# Altium footprint library jumper.PCBLIB: 66 footprints (part 3 of 5)
Each footprint in its own frame and in the unit in brackets; x right, y up, seen from the top. Pads: shape width x height; smd on the part's side, far side on the other; paste and mask are expansions set on the pad; w line width, h text height; cw(c..) or ccw(c..) is an arc to the next point about the centre after c.
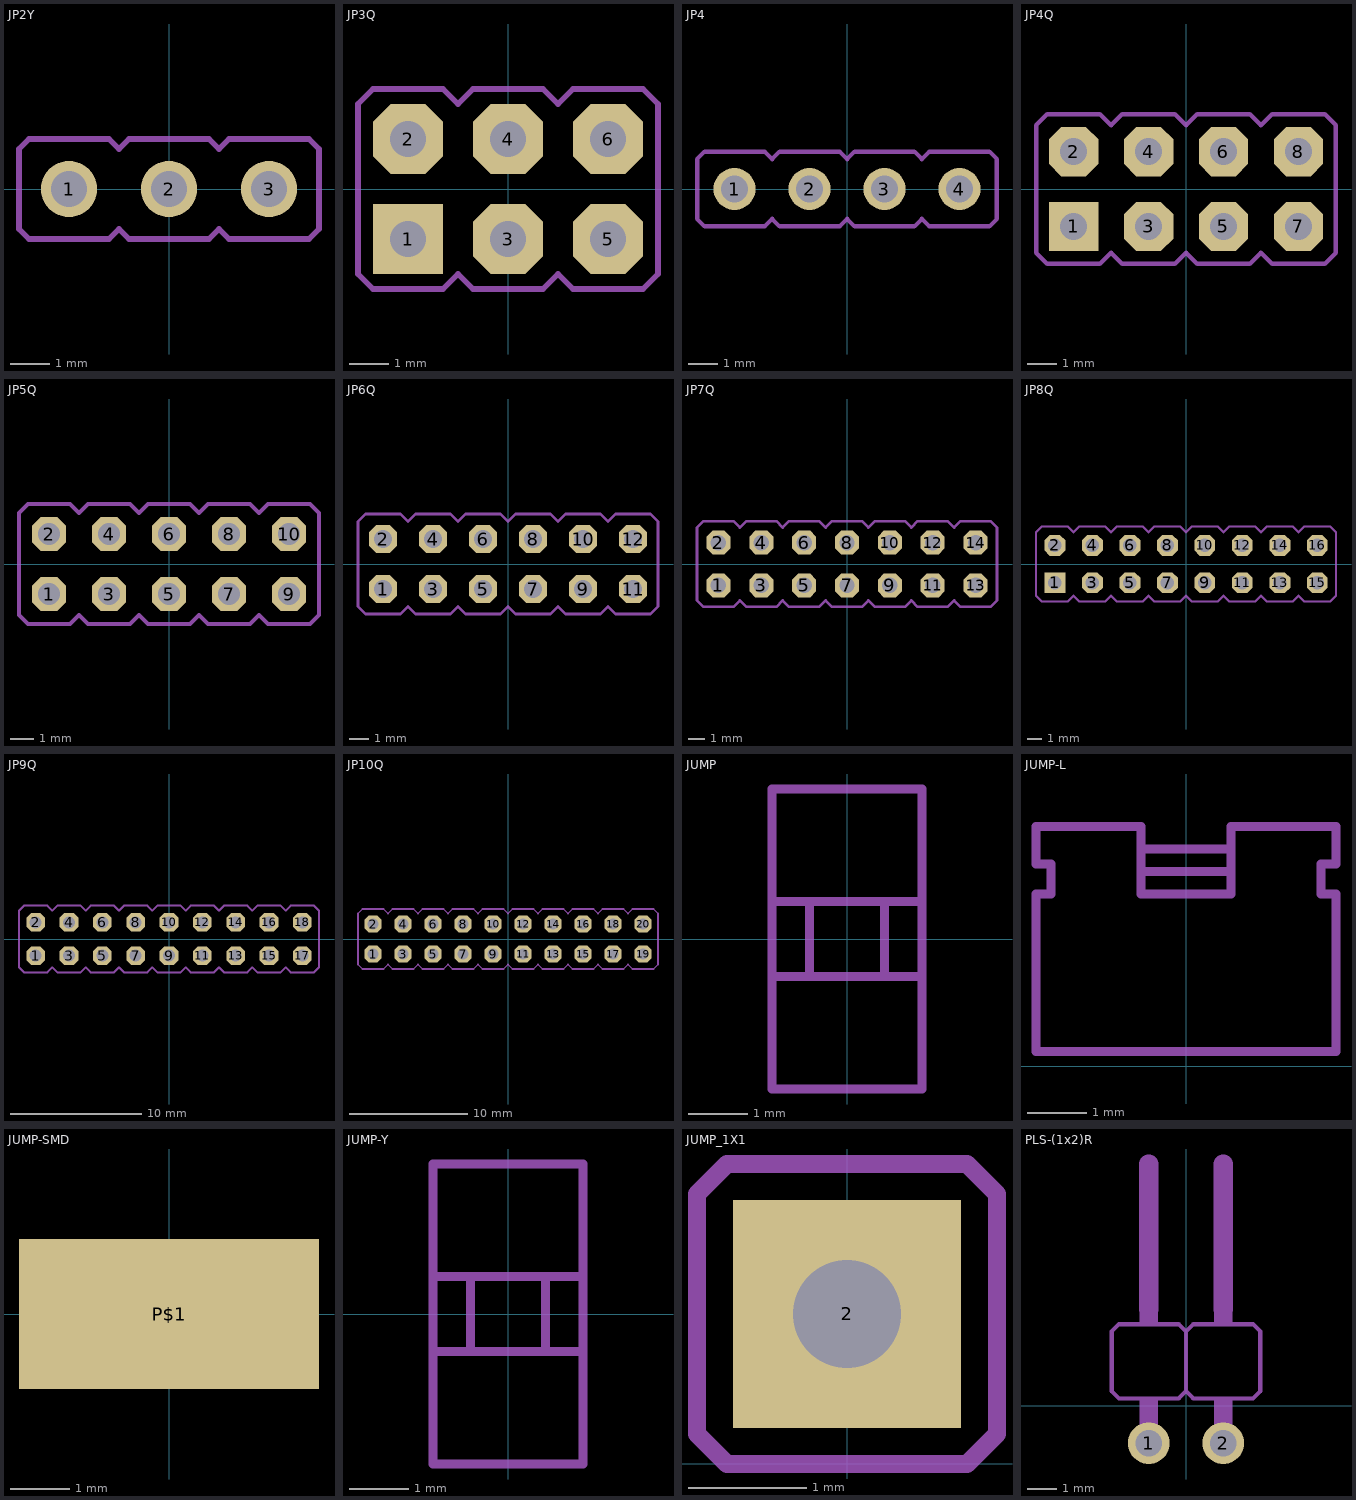
[diagram p2: the footprints below, top view; thin cyan lines are the x and y axes]

## JP2Y [mil]
pads (3):
  round 56 hole 36: 1(-100,0) 2(0,0) 3(100,0)
Mechanical 3:
  region: 88,-12 88,12 112,12 112,-12
  region: -12,-12 -12,12 12,12 12,-12
  region: -112,-12 -112,12 -88,12 -88,-12
  lines w6: -130,-50 -70,-50 ; -130,50 -70,50 ; -30,-50 30,-50 ; -30,50 30,50 ; 70,-50 130,-50 ; 70,50 130,50
Mechanical 7:
  lines w6: -130,-50 -140,-50 -150,-40 -150,40 -140,50 -130,50 ; -70,-50 -60,-50 -50,-40 -40,-50 -30,-50 ; -70,50 -60,50 -50,40 -40,50 -30,50 ; 30,-50 40,-50 50,-40 60,-50 70,-50 ; 30,50 40,50 50,40 60,50 70,50 ; 130,-50 140,-50 150,-40 150,40 140,50 130,50

## JP3Q [mil]
pads (6):
  rect 70x70 / inner round 64.67 / far side rect 70x70 hole 36: 1(-100,-50)
  oct 70x70 / inner round 64.67 / far side oct 70x70 hole 36: 2(-100,50) 3(0,-50) 4(0,50) 5(100,-50) 6(100,50)
Mechanical 3:
  region: -112,38 -112,62 -88,62 -88,38
  region: -12,38 -12,62 12,62 12,38
  region: 88,38 88,62 112,62 112,38
  region: -112,-62 -112,-38 -88,-38 -88,-62
  region: -12,-62 -12,-38 12,-38 12,-62
  region: 88,-62 88,-38 112,-38 112,-62
Mechanical 7:
  lines w6: -150,-85 -150,85 -135,100 -65,100 -50,85 -35,100 35,100 50,85 65,100 135,100 150,85 150,-85 135,-100 65,-100 50,-85 35,-100 -35,-100 -50,-85 -65,-100 -135,-100 -150,-85

## JP4 [mil]
pads (4):
  round 56 hole 36: 1(-150,0) 2(-50,0) 3(50,0) 4(150,0)
Mechanical 3:
  region: -162,-12 -162,12 -138,12 -138,-12
  region: -62,-12 -62,12 -38,12 -38,-12
  region: 38,-12 38,12 62,12 62,-12
  region: 138,-12 138,12 162,12 162,-12
Mechanical 7:
  lines w6: -200,-40 -200,40 -190,50 -110,50 -100,40 -90,50 -10,50 0,40 10,50 90,50 100,40 110,50 190,50 200,40 200,-40 190,-50 110,-50 100,-40 90,-50 10,-50 0,-40 -10,-50 -90,-50 -100,-40 -110,-50 -190,-50 -200,-40

## JP4Q [mil]
pads (8):
  rect 66x66 / inner round 60.98 / far side rect 66x66 hole 36: 1(-150,-50)
  oct 66x66 / inner round 60.98 / far side oct 66x66 hole 36: 2(-150,50) 3(-50,-50) 4(-50,50) 5(50,-50) 6(50,50) 7(150,-50) 8(150,50)
Mechanical 3:
  region: -162,38 -162,62 -138,62 -138,38
  region: -62,38 -62,62 -38,62 -38,38
  region: 38,38 38,62 62,62 62,38
  region: 138,-62 138,-38 162,-38 162,-62
  region: -162,-62 -162,-38 -138,-38 -138,-62
  region: -62,-62 -62,-38 -38,-38 -38,-62
  region: 138,38 138,62 162,62 162,38
  region: 38,-62 38,-38 62,-38 62,-62
Mechanical 7:
  lines w6: -200,-85 -200,85 -185,100 -115,100 -100,85 -85,100 -15,100 0,85 15,100 85,100 100,85 115,100 185,100 200,85 200,-85 185,-100 115,-100 100,-85 85,-100 15,-100 0,-85 -15,-100 -85,-100 -100,-85 -115,-100 -185,-100 -200,-85

## JP5Q [mil]
pads (10):
  oct 56x56 / inner round 51.74 / far side oct 56x56 hole 36: 1(-200,-50) 2(-200,50) 3(-100,-50) 4(-100,50) 5(0,-50) 6(0,50) 7(100,-50) 8(100,50) 9(200,-50) 10(200,50)
Mechanical 3:
  region: -212,38 -212,62 -188,62 -188,38
  region: -112,38 -112,62 -88,62 -88,38
  region: -12,38 -12,62 12,62 12,38
  region: -212,-62 -212,-38 -188,-38 -188,-62
  region: -112,-62 -112,-38 -88,-38 -88,-62
  region: -12,-62 -12,-38 12,-38 12,-62
  region: 88,38 88,62 112,62 112,38
  region: 188,38 188,62 212,62 212,38
  region: 188,-62 188,-38 212,-38 212,-62
  region: 88,-62 88,-38 112,-38 112,-62
Mechanical 7:
  lines w6: -250,-85 -250,85 -235,100 -165,100 -150,85 -135,100 -65,100 -50,85 -35,100 35,100 50,85 65,100 135,100 150,85 165,100 235,100 250,85 250,-85 235,-100 165,-100 150,-85 135,-100 65,-100 50,-85 35,-100 -35,-100 -50,-85 -65,-100 -135,-100 -150,-85 -165,-100 -235,-100 -250,-85
  text "1" at -220,-165 h77.5
  text "2" at -120,-165 h77.5
  text "3" at -20,-165 h77.5
  text "4" at 80,-165 h77.5
  text "5" at 180,-165 h77.5

## JP6Q [mil]
pads (12):
  oct 56x56 / inner round 51.74 / far side oct 56x56 hole 36: 1(-250,-50) 2(-250,50) 3(-150,-50) 4(-150,50) 5(-50,-50) 6(-50,50) 7(50,-50) 8(50,50) 9(150,-50) 10(150,50) 11(250,-50) 12(250,50)
Mechanical 3:
  region: -262,38 -262,62 -238,62 -238,38
  region: -162,38 -162,62 -138,62 -138,38
  region: -62,38 -62,62 -38,62 -38,38
  region: 38,38 38,62 62,62 62,38
  region: 138,38 138,62 162,62 162,38
  region: 238,38 238,62 262,62 262,38
  region: -262,-62 -262,-38 -238,-38 -238,-62
  region: -162,-62 -162,-38 -138,-38 -138,-62
  region: -62,-62 -62,-38 -38,-38 -38,-62
  region: 38,-62 38,-38 62,-38 62,-62
  region: 138,-62 138,-38 162,-38 162,-62
  region: 238,-62 238,-38 262,-38 262,-62
Mechanical 7:
  lines w6: -300,-85 -300,85 -285,100 -215,100 -200,85 -185,100 -115,100 -100,85 -85,100 -15,100 0,85 15,100 85,100 100,85 115,100 185,100 200,85 215,100 285,100 300,85 300,-85 285,-100 215,-100 200,-85 185,-100 115,-100 100,-85 85,-100 15,-100 0,-85 -15,-100 -85,-100 -100,-85 -115,-100 -185,-100 -200,-85 -215,-100 -285,-100 -300,-85
  text "1" at -270,-165 h77.5
  text "2" at -170,-165 h77.5
  text "3" at -70,-165 h77.5
  text "4" at 30,-165 h77.5
  text "5" at 130,-165 h77.5
  text "6" at 230,-165 h77.5

## JP7Q [mil]
pads (14):
  oct 56x56 / inner round 51.74 / far side oct 56x56 hole 36: 1(-300,-50) 2(-300,50) 3(-200,-50) 4(-200,50) 5(-100,-50) 6(-100,50) 7(0,-50) 8(0,50) 9(100,-50) 10(100,50) 11(200,-50) 12(200,50) 13(300,-50) 14(300,50)
Mechanical 3:
  region: -312,38 -312,62 -288,62 -288,38
  region: -212,38 -212,62 -188,62 -188,38
  region: -112,38 -112,62 -88,62 -88,38
  region: -12,38 -12,62 12,62 12,38
  region: 88,38 88,62 112,62 112,38
  region: 188,38 188,62 212,62 212,38
  region: -312,-62 -312,-38 -288,-38 -288,-62
  region: -212,-62 -212,-38 -188,-38 -188,-62
  region: -112,-62 -112,-38 -88,-38 -88,-62
  region: -12,-62 -12,-38 12,-38 12,-62
  region: 88,-62 88,-38 112,-38 112,-62
  region: 188,-62 188,-38 212,-38 212,-62
  region: 288,38 288,62 312,62 312,38
  region: 288,-62 288,-38 312,-38 312,-62
Mechanical 7:
  lines w6: -350,-85 -350,85 -335,100 -265,100 -250,85 -235,100 -165,100 -150,85 -135,100 -65,100 -50,85 -35,100 35,100 50,85 65,100 135,100 150,85 165,100 235,100 250,85 265,100 335,100 350,85 350,-85 335,-100 265,-100 250,-85 235,-100 165,-100 150,-85 135,-100 65,-100 50,-85 35,-100 -35,-100 -50,-85 -65,-100 -135,-100 -150,-85 -165,-100 -235,-100 -250,-85 -265,-100 -335,-100 -350,-85
  text "1" at -320,-165 h77.5
  text "2" at -220,-165 h77.5
  text "3" at -120,-165 h77.5
  text "4" at -20,-165 h77.5
  text "5" at 80,-165 h77.5
  text "6" at 180,-165 h77.5
  text "7" at 280,-165 h77.5

## JP8Q [mil]
pads (16):
  rect 56x56 / inner round 51.74 / far side rect 56x56 hole 36: 1(-350,-50)
  oct 56x56 / inner round 51.74 / far side oct 56x56 hole 36: 2(-350,50) 3(-250,-50) 4(-250,50) 5(-150,-50) 6(-150,50) 7(-50,-50) 8(-50,50) 9(50,-50) 10(50,50) 11(150,-50) 12(150,50) 13(250,-50) 14(250,50) 15(350,-50) 16(350,50)
Mechanical 3:
  region: -362,38 -362,62 -338,62 -338,38
  region: -262,38 -262,62 -238,62 -238,38
  region: -162,38 -162,62 -138,62 -138,38
  region: -62,38 -62,62 -38,62 -38,38
  region: 38,38 38,62 62,62 62,38
  region: 138,38 138,62 162,62 162,38
  region: 238,38 238,62 262,62 262,38
  region: 338,38 338,62 362,62 362,38
  region: -362,-62 -362,-38 -338,-38 -338,-62
  region: -262,-62 -262,-38 -238,-38 -238,-62
  region: -162,-62 -162,-38 -138,-38 -138,-62
  region: -62,-62 -62,-38 -38,-38 -38,-62
  region: 38,-62 38,-38 62,-38 62,-62
  region: 138,-62 138,-38 162,-38 162,-62
  region: 238,-62 238,-38 262,-38 262,-62
  region: 338,-62 338,-38 362,-38 362,-62
Mechanical 7:
  lines w6: -400,-85 -400,85 -385,100 -315,100 -300,85 -285,100 -215,100 -200,85 -185,100 -115,100 -100,85 -85,100 -15,100 0,85 15,100 85,100 100,85 115,100 185,100 200,85 215,100 285,100 300,85 315,100 385,100 400,85 400,-85 385,-100 315,-100 300,-85 285,-100 215,-100 200,-85 185,-100 115,-100 100,-85 85,-100 15,-100 0,-85 -15,-100 -85,-100 -100,-85 -115,-100 -185,-100 -200,-85 -215,-100 -285,-100 -300,-85 -315,-100 -385,-100 -400,-85

## JP9Q [mil]
pads (18):
  oct 56x56 / inner round 51.74 / far side oct 56x56 hole 36: 1(-400,-50) 2(-400,50) 3(-300,-50) 4(-300,50) 5(-200,-50) 6(-200,50) 7(-100,-50) 8(-100,50) 9(0,-50) 10(0,50) 11(100,-50) 12(100,50) 13(200,-50) 14(200,50) 15(300,-50) 16(300,50) 17(400,-50) 18(400,50)
Mechanical 3:
  region: -412,38 -412,62 -388,62 -388,38
  region: -312,38 -312,62 -288,62 -288,38
  region: -212,38 -212,62 -188,62 -188,38
  region: -112,38 -112,62 -88,62 -88,38
  region: -12,38 -12,62 12,62 12,38
  region: 88,38 88,62 112,62 112,38
  region: 188,38 188,62 212,62 212,38
  region: 288,38 288,62 312,62 312,38
  region: 388,38 388,62 412,62 412,38
  region: -412,-62 -412,-38 -388,-38 -388,-62
  region: -312,-62 -312,-38 -288,-38 -288,-62
  region: -212,-62 -212,-38 -188,-38 -188,-62
  region: -112,-62 -112,-38 -88,-38 -88,-62
  region: -12,-62 -12,-38 12,-38 12,-62
  region: 88,-62 88,-38 112,-38 112,-62
  region: 188,-62 188,-38 212,-38 212,-62
  region: 288,-62 288,-38 312,-38 312,-62
  region: 388,-62 388,-38 412,-38 412,-62
Mechanical 7:
  lines w6: -450,-85 -450,85 -435,100 -365,100 -350,85 -335,100 -265,100 -250,85 -235,100 -165,100 -150,85 -135,100 -65,100 -50,85 -35,100 35,100 50,85 65,100 135,100 150,85 165,100 235,100 250,85 265,100 335,100 350,85 365,100 435,100 450,85 450,-85 435,-100 365,-100 350,-85 335,-100 265,-100 250,-85 235,-100 165,-100 150,-85 135,-100 65,-100 50,-85 35,-100 -35,-100 -50,-85 -65,-100 -135,-100 -150,-85 -165,-100 -235,-100 -250,-85 -265,-100 -335,-100 -350,-85 -365,-100 -435,-100 -450,-85
  text "1" at -420,-165 h77.5
  text "2" at -320,-165 h77.5
  text "3" at -220,-165 h77.5
  text "4" at -120,-165 h77.5
  text "5" at -20,-165 h77.5
  text "6" at 80,-165 h77.5
  text "7" at 180,-165 h77.5
  text "8" at 280,-165 h77.5
  text "9" at 380,-165 h77.5

## JP10Q [mil]
pads (20):
  oct 56x56 / inner round 51.74 / far side oct 56x56 hole 36: 1(-450,-50) 2(-450,50) 3(-350,-50) 4(-350,50) 5(-250,-50) 6(-250,50) 7(-150,-50) 8(-150,50) 9(-50,-50) 10(-50,50) 11(50,-50) 12(50,50) 13(150,-50) 14(150,50) 15(250,-50) 16(250,50) 17(350,-50) 18(350,50) 19(450,-50) 20(450,50)
Mechanical 3:
  region: -462,38 -462,62 -438,62 -438,38
  region: -362,38 -362,62 -338,62 -338,38
  region: -262,38 -262,62 -238,62 -238,38
  region: -162,38 -162,62 -138,62 -138,38
  region: -62,38 -62,62 -38,62 -38,38
  region: 38,38 38,62 62,62 62,38
  region: 138,38 138,62 162,62 162,38
  region: 238,38 238,62 262,62 262,38
  region: 338,38 338,62 362,62 362,38
  region: -462,-62 -462,-38 -438,-38 -438,-62
  region: -362,-62 -362,-38 -338,-38 -338,-62
  region: -262,-62 -262,-38 -238,-38 -238,-62
  region: -162,-62 -162,-38 -138,-38 -138,-62
  region: -62,-62 -62,-38 -38,-38 -38,-62
  region: 38,-62 38,-38 62,-38 62,-62
  region: 138,-62 138,-38 162,-38 162,-62
  region: 238,-62 238,-38 262,-38 262,-62
  region: 338,-62 338,-38 362,-38 362,-62
  region: 438,38 438,62 462,62 462,38
  region: 438,-62 438,-38 462,-38 462,-62
Mechanical 7:
  lines w6: -500,-85 -500,85 -485,100 -415,100 -400,85 -385,100 -315,100 -300,85 -285,100 -215,100 -200,85 -185,100 -115,100 -100,85 -85,100 -15,100 0,85 15,100 85,100 100,85 115,100 185,100 200,85 215,100 285,100 300,85 315,100 385,100 400,85 415,100 485,100 500,85 500,-85 485,-100 415,-100 400,-85 385,-100 315,-100 300,-85 285,-100 215,-100 200,-85 185,-100 115,-100 100,-85 85,-100 15,-100 0,-85 -15,-100 -85,-100 -100,-85 -115,-100 -185,-100 -200,-85 -215,-100 -285,-100 -300,-85 -315,-100 -385,-100 -400,-85 -415,-100 -485,-100 -500,-85

## JUMP [mil]
Mechanical 3:
  lines w6: -25,-25 25,-25 ; -25,25 25,25
Mechanical 7:
  lines w6: -50,-25 -50,-100 50,-100 50,-25 ; -50,-25 -25,-25 -25,25 -50,25 ; -50,-25 -50,25 ; -50,25 -50,100 50,100 50,25 ; 50,-25 25,-25 25,25 50,25 ; 50,-25 50,25

## JUMP-L [mil]
Mechanical 7:
  lines w6: -30,130 30,130 ; -30,130 -30,145 ; -30,130 -30,115 30,115 30,130 ; -30,145 -30,160 -100,160 -100,135 -90,135 -90,115 -100,115 -100,10 100,10 100,115 90,115 90,135 100,135 100,160 30,160 30,145 ; -30,145 30,145 ; 30,130 30,145

## JUMP-SMD [mil]
pads (1):
  rect 200x100 smd: P$1(0,0)

## JUMP-Y [mil]
Mechanical 3:
  lines w6: -50,-80 -50,-25 ; -50,-20 -50,-25 ; -50,20 -50,25 ; -50,80 -50,25 ; -25,-10 -25,-25 ; -25,10 -25,25 ; 25,-10 25,-25 ; 25,10 25,25 ; 50,-80 50,-25 ; 50,-20 50,-25 ; 50,20 50,25 ; 50,80 50,25 ; -50,-25 -25,-25 ; -50,25 -25,25 ; -25,-25 25,-25 ; -25,25 25,25 ; 25,-25 50,-25 ; 25,25 50,25
Mechanical 7:
  lines w6: -50,-80 -50,-100 50,-100 50,-80 ; -50,-20 -50,20 ; -50,80 -50,100 50,100 50,80 ; -25,-10 -25,10 ; 25,-10 25,10 ; 50,-20 50,20

## JUMP_1X1 [mil]
pads (1):
  rect 76x76 / inner round 70.21 / far side rect 76x76 hole 36: 2(0,50)
Mechanical 3:
  region: -12,38 -12,62 12,62 12,38
Mechanical 7:
  lines w6: -50,10 -40,0 40,0 50,10 50,90 40,100 -40,100 -50,90 -50,10

## PLS-(1x2)R [mil]
pads (2):
  round 56 hole 36: 1(-50,-50) 2(50,-50)
Mechanical 3:
  region: -62,-60 -62,-10 -38,-10 -38,-60
  region: 38,-60 38,-10 62,-10 62,-60
Mechanical 7:
  region: -62,110 -62,130 -38,130 -38,110
  region: 38,110 38,130 62,130 62,110
  region: -62,-10 -62,10 -38,10 -38,-10
  region: 38,-10 38,10 62,10 62,-10
  lines w6: 0,20 -10,10 -90,10 -100,20 -100,100 -90,110 -10,110 0,100 ; 0,20 10,10 90,10 100,20 100,100 90,110 10,110 0,100 ; 0,20 0,100
  lines w26: -50,130 -50,325 ; 50,130 50,325
  text "2" at 35,50 h60.45
  text "1" at -60,50 h60.45